# Altium footprint library CONN_TBLOCK_8P25to15P0.PcbLib: 118 footprints (part 7 of 8)
Each footprint in its own frame and in the unit in brackets; x right, y up, seen from the top. Pads: shape width x height; smd on the part's side, far side on the other; paste and mask are expansions set on the pad; w line width, h text height; cw(c..) or ccw(c..) is an arc to the next point about the centre after c.
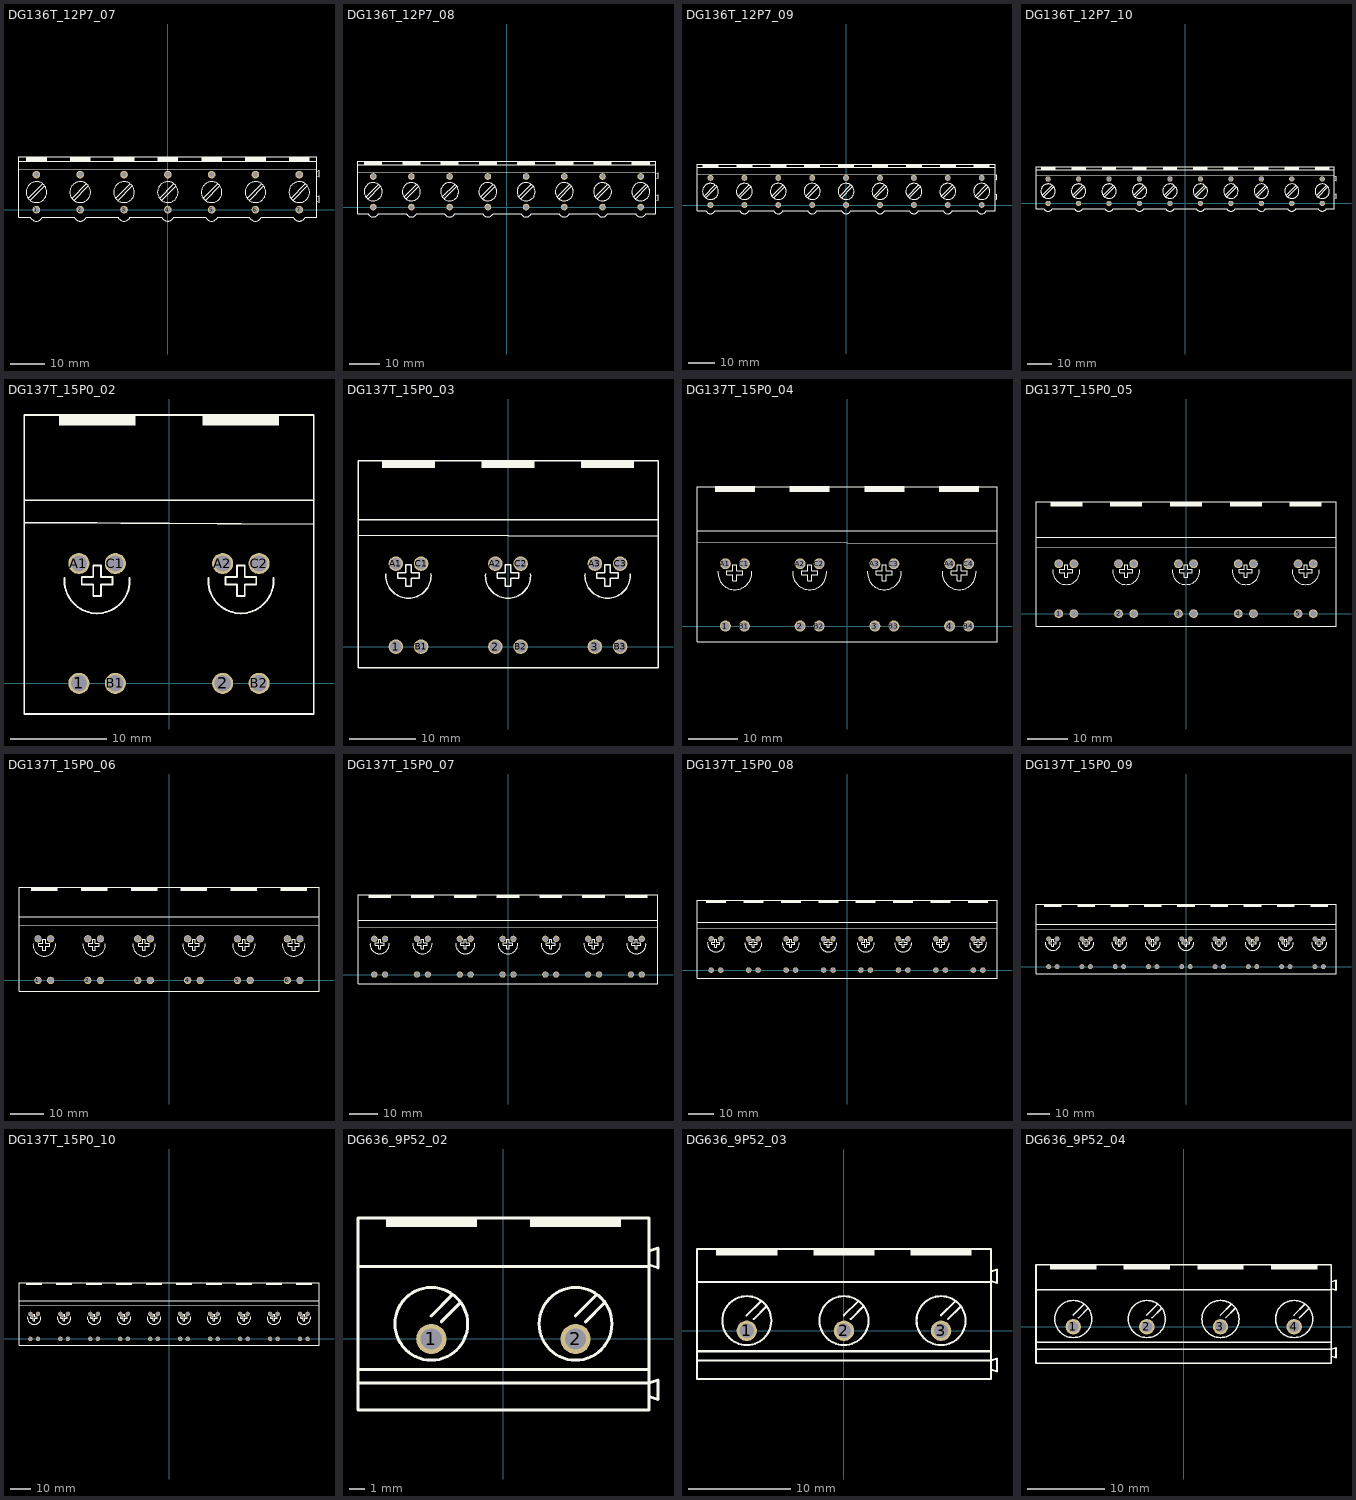
[diagram p6: the footprints below, top view; thin cyan lines are the x and y axes]

## DG136T_12P7_07 [mm] "Terminal Block Screw, Pitch 12.7mm, 60A/600v"
height 29.3
pads (14):
  round 2.2 / inner round 2.2 / far side oval 3x4 hole 1.5: 1(-38.1,0) 1'(-38.1,10.16) 2(-25.4,0) 2'(-25.4,10.16) 3(-12.7,0) 3'(-12.7,10.16) 4(0,0) 4'(0,10.16) 5(12.7,0) 5'(12.7,10.16) 6(25.4,0) 6'(25.4,10.16) 7(38.1,0) 7'(38.1,10.16)
Top Overlay:
  circle w0.2: c38.1,5.1 r3
  circle w0.2: c25.4,5.1 r3
  circle w0.2: c12.7,5.1 r3
  circle w0.2: c0,5.1 r3
  circle w0.2: c-12.7,5.1 r3
  circle w0.2: c-25.4,5.1 r3
  circle w0.2: c-38.1,5.1 r3
  rectangle: 35.1,14.1 41.1,15.3
  rectangle: 22.4,14.1 28.4,15.3
  rectangle: 9.7,14.1 15.7,15.3
  rectangle: -3,14.1 3,15.3
  rectangle: -15.7,14.1 -9.7,15.3
  rectangle: -28.4,14.1 -22.4,15.3
  rectangle: -41.1,14.1 -35.1,15.3
  lines w0.2: -43.15,11.8 43.15,11.6 ; -43.15,14.1 43.15,14.1 ; -40.475,3.355 -36.32,7.5 ; -39.817,2.697 -35.72,6.9 ; -27.775,3.355 -23.62,7.5 ; -27.117,2.697 -23.02,6.9 ; -15.075,3.355 -10.92,7.5 ; -14.417,2.697 -10.32,6.9 ; -2.375,3.355 1.78,7.5 ; -1.717,2.697 2.38,6.9 ; 10.325,3.355 14.48,7.5 ; 10.983,2.697 15.08,6.9 ; 23.025,3.355 27.18,7.5 ; 23.683,2.697 27.78,6.9 ; 35.725,3.355 39.88,7.5 ; 36.383,2.697 40.48,6.9 ; 43.158,2.424 43.83,2.2 43.83,4.1 43.158,3.876 ; 43.158,9.724 43.83,9.5 43.83,11.4 43.158,11.176 ; -43.15,-2.2 -39.822,-2.203 ccw(c-38.1,-1.4) -36.378,-2.203 -27.122,-2.203 ccw(c-25.4,-1.4) -23.678,-2.203 -14.422,-2.203 ccw(c-12.7,-1.4) -10.978,-2.203 -1.722,-2.203 ccw(c0,-1.4) 1.722,-2.203 10.978,-2.203 ccw(c12.7,-1.4) 14.422,-2.203 23.678,-2.203 ccw(c25.4,-1.4) 27.122,-2.203 36.378,-2.203 ccw(c38.1,-1.4) 39.822,-2.203 43.15,-2.2 43.15,15.3 -43.15,15.3 -43.15,-2.2
3D body "DG136T-12.7-02P.stp": height 29.29, standoff -5.01, extent 20.325,-3.2 43.935,15.2
3D body "DG136T-12.7-02P.stp": height 29.29, standoff -5.01, extent -43.175,-3.2 -19.565,15.2
3D body "DG136T-12.7-03P.stp": height 29.29, standoff -5.01, extent -17.775,-3.2 18.535,15.2

## DG136T_12P7_08 [mm] "Terminal Block Screw, Pitch 12.7mm, 60A/600v"
height 29.3
pads (16):
  round 2.2 / inner round 2.2 / far side oval 3x4 hole 1.5: 1(-44.45,0) 1'(-44.45,10.16) 2(-31.75,0) 2'(-31.75,10.16) 3(-19.05,0) 3'(-19.05,10.16) 4(-6.35,0) 4'(-6.35,10.16) 5(6.35,0) 5'(6.35,10.16) 6(19.05,0) 6'(19.05,10.16) 7(31.75,0) 7'(31.75,10.16) 8(44.45,0) 8'(44.45,10.16)
Top Overlay:
  circle w0.2: c44.45,5.1 r3
  circle w0.2: c31.75,5.1 r3
  circle w0.2: c19.05,5.1 r3
  circle w0.2: c6.35,5.1 r3
  circle w0.2: c-6.35,5.1 r3
  circle w0.2: c-19.05,5.1 r3
  circle w0.2: c-31.75,5.1 r3
  circle w0.2: c-44.45,5.1 r3
  rectangle: 41.45,14.1 47.45,15.3
  rectangle: 28.75,14.1 34.75,15.3
  rectangle: 16.05,14.1 22.05,15.3
  rectangle: 3.35,14.1 9.35,15.3
  rectangle: -9.35,14.1 -3.35,15.3
  rectangle: -22.05,14.1 -16.05,15.3
  rectangle: -34.75,14.1 -28.75,15.3
  rectangle: -47.45,14.1 -41.45,15.3
  lines w0.2: -49.5,11.8 49.5,11.6 ; -49.5,14.1 49.5,14.1 ; -46.825,3.355 -42.67,7.5 ; -46.167,2.697 -42.07,6.9 ; -34.125,3.355 -29.97,7.5 ; -33.467,2.697 -29.37,6.9 ; -21.425,3.355 -17.27,7.5 ; -20.767,2.697 -16.67,6.9 ; -8.725,3.355 -4.57,7.5 ; -8.067,2.697 -3.97,6.9 ; 3.975,3.355 8.13,7.5 ; 4.633,2.697 8.73,6.9 ; 16.675,3.355 20.83,7.5 ; 17.333,2.697 21.43,6.9 ; 29.375,3.355 33.53,7.5 ; 30.033,2.697 34.13,6.9 ; 42.075,3.355 46.23,7.5 ; 42.733,2.697 46.83,6.9 ; 49.508,2.424 50.18,2.2 50.18,4.1 49.508,3.876 ; 49.508,9.724 50.18,9.5 50.18,11.4 49.508,11.176 ; -49.5,-2.2 -46.172,-2.203 ccw(c-44.45,-1.4) -42.728,-2.203 -33.472,-2.203 ccw(c-31.75,-1.4) -30.028,-2.203 -20.772,-2.203 ccw(c-19.05,-1.4) -17.328,-2.203 -8.072,-2.203 ccw(c-6.35,-1.4) -4.628,-2.203 4.628,-2.203 ccw(c6.35,-1.4) 8.072,-2.203 17.328,-2.203 ccw(c19.05,-1.4) 20.772,-2.203 30.028,-2.203 ccw(c31.75,-1.4) 33.472,-2.203 42.728,-2.203 ccw(c44.45,-1.4) 46.172,-2.203 49.5,-2.2 49.5,15.3 -49.5,15.3 -49.5,-2.2
3D body "DG136T-12.7-02P.stp": height 29.29, standoff -5.01, extent -49.525,-3.2 -25.915,15.2
3D body "DG136T-12.7-03P.stp": height 29.29, standoff -5.01, extent -24.125,-3.2 12.185,15.2
3D body "DG136T-12.7-03P.stp": height 29.29, standoff -5.01, extent 13.975,-3.2 50.285,15.2

## DG136T_12P7_09 [mm] "Terminal Block Screw, Pitch 12.7mm, 60A/600v"
height 29.3
pads (18):
  round 2.2 / inner round 2.2 / far side oval 3x4 hole 1.5: 1(-50.8,0) 1'(-50.8,10.16) 2(-38.1,0) 2'(-38.1,10.16) 3(-25.4,0) 3'(-25.4,10.16) 4(-12.7,0) 4'(-12.7,10.16) 5(0,0) 5'(0,10.16) 6(12.7,0) 6'(12.7,10.16) 7(25.4,0) 7'(25.4,10.16) 8(38.1,0) 8'(38.1,10.16) 9(50.8,0) 9'(50.8,10.16)
Top Overlay:
  circle w0.2: c-50.8,5.1 r3
  circle w0.2: c-38.1,5.1 r3
  circle w0.2: c-25.4,5.1 r3
  circle w0.2: c-12.7,5.1 r3
  circle w0.2: c0,5.1 r3
  circle w0.2: c12.7,5.1 r3
  circle w0.2: c25.4,5.1 r3
  circle w0.2: c38.1,5.1 r3
  circle w0.2: c50.8,5.1 r3
  rectangle: -53.8,14.1 -47.8,15.3
  rectangle: -41.1,14.1 -35.1,15.3
  rectangle: -28.4,14.1 -22.4,15.3
  rectangle: -15.7,14.1 -9.7,15.3
  rectangle: -3,14.1 3,15.3
  rectangle: 9.7,14.1 15.7,15.3
  rectangle: 22.4,14.1 28.4,15.3
  rectangle: 35.1,14.1 41.1,15.3
  rectangle: 47.8,14.1 53.8,15.3
  lines w0.2: -55.85,11.8 55.85,11.6 ; -55.85,14.1 55.85,14.1 ; -53.175,3.355 -49.02,7.5 ; -52.517,2.697 -48.42,6.9 ; -40.475,3.355 -36.32,7.5 ; -39.817,2.697 -35.72,6.9 ; -27.775,3.355 -23.62,7.5 ; -27.117,2.697 -23.02,6.9 ; -15.075,3.355 -10.92,7.5 ; -14.417,2.697 -10.32,6.9 ; -2.375,3.355 1.78,7.5 ; -1.717,2.697 2.38,6.9 ; 10.325,3.355 14.48,7.5 ; 10.983,2.697 15.08,6.9 ; 23.025,3.355 27.18,7.5 ; 23.683,2.697 27.78,6.9 ; 35.725,3.355 39.88,7.5 ; 36.383,2.697 40.48,6.9 ; 48.425,3.355 52.58,7.5 ; 49.083,2.697 53.18,6.9 ; 55.858,2.424 56.53,2.2 56.53,4.1 55.858,3.876 ; 55.858,9.724 56.53,9.5 56.53,11.4 55.858,11.176 ; -55.85,-2.2 -55.85,15.3 55.85,15.3 55.85,-2.2 52.522,-2.203 cw(c50.8,-1.4) 49.078,-2.203 39.822,-2.203 cw(c38.1,-1.4) 36.378,-2.203 27.122,-2.203 cw(c25.4,-1.4) 23.678,-2.203 14.422,-2.203 cw(c12.7,-1.4) 10.978,-2.203 1.722,-2.203 cw(c0,-1.4) -1.722,-2.203 -10.978,-2.203 cw(c-12.7,-1.4) -14.422,-2.203 -23.678,-2.203 cw(c-25.4,-1.4) -27.122,-2.203 -36.378,-2.203 cw(c-38.1,-1.4) -39.822,-2.203 -49.078,-2.203 cw(c-50.8,-1.4) -52.522,-2.203 -55.85,-2.2
3D body "DG136T-12.7-03P.stp": height 29.29, standoff -5.01, extent 20.325,-3.2 56.635,15.2
3D body "DG136T-12.7-03P.stp": height 29.29, standoff -5.01, extent -17.775,-3.2 18.535,15.2
3D body "DG136T-12.7-03P.stp": height 29.29, standoff -5.01, extent -55.875,-3.2 -19.565,15.2

## DG136T_12P7_10 [mm] "Terminal Block Screw, Pitch 12.7mm, 60A/600v"
height 29.3
pads (20):
  round 2.2 / inner round 2.2 / far side oval 3x4 hole 1.5: 1(-57.15,0) 1'(-57.15,10.16) 2(-44.45,0) 2'(-44.45,10.16) 3(-31.75,0) 3'(-31.75,10.16) 4(-19.05,0) 4'(-19.05,10.16) 5(-6.35,0) 5'(-6.35,10.16) 6(6.35,0) 6'(6.35,10.16) 7(19.05,0) 7'(19.05,10.16) 8(31.75,0) 8'(31.75,10.16) 9(44.45,0) 9'(44.45,10.16) 10(57.15,0) 10'(57.15,10.16)
Top Overlay:
  circle w0.2: c57.15,5.1 r3
  circle w0.2: c44.45,5.1 r3
  circle w0.2: c31.75,5.1 r3
  circle w0.2: c19.05,5.1 r3
  circle w0.2: c6.35,5.1 r3
  circle w0.2: c-6.35,5.1 r3
  circle w0.2: c-19.05,5.1 r3
  circle w0.2: c-31.75,5.1 r3
  circle w0.2: c-44.45,5.1 r3
  circle w0.2: c-57.15,5.1 r3
  rectangle: 54.15,14.1 60.15,15.3
  rectangle: 41.45,14.1 47.45,15.3
  rectangle: 28.75,14.1 34.75,15.3
  rectangle: 16.05,14.1 22.05,15.3
  rectangle: 3.35,14.1 9.35,15.3
  rectangle: -9.35,14.1 -3.35,15.3
  rectangle: -22.05,14.1 -16.05,15.3
  rectangle: -34.75,14.1 -28.75,15.3
  rectangle: -47.45,14.1 -41.45,15.3
  rectangle: -60.15,14.1 -54.15,15.3
  lines w0.2: -62.2,11.8 62.2,11.6 ; -62.2,14.1 62.2,14.1 ; -59.525,3.355 -55.37,7.5 ; -58.867,2.697 -54.77,6.9 ; -46.825,3.355 -42.67,7.5 ; -46.167,2.697 -42.07,6.9 ; -34.125,3.355 -29.97,7.5 ; -33.467,2.697 -29.37,6.9 ; -21.425,3.355 -17.27,7.5 ; -20.767,2.697 -16.67,6.9 ; -8.725,3.355 -4.57,7.5 ; -8.067,2.697 -3.97,6.9 ; 3.975,3.355 8.13,7.5 ; 4.633,2.697 8.73,6.9 ; 16.675,3.355 20.83,7.5 ; 17.333,2.697 21.43,6.9 ; 29.375,3.355 33.53,7.5 ; 30.033,2.697 34.13,6.9 ; 42.075,3.355 46.23,7.5 ; 42.733,2.697 46.83,6.9 ; 54.775,3.355 58.93,7.5 ; 55.433,2.697 59.53,6.9 ; 62.208,2.424 62.88,2.2 62.88,4.1 62.208,3.876 ; 62.208,9.724 62.88,9.5 62.88,11.4 62.208,11.176 ; -62.2,-2.2 -58.872,-2.203 ccw(c-57.15,-1.4) -55.428,-2.203 -46.172,-2.203 ccw(c-44.45,-1.4) -42.728,-2.203 -33.472,-2.203 ccw(c-31.75,-1.4) -30.028,-2.203 -20.772,-2.203 ccw(c-19.05,-1.4) -17.328,-2.203 -8.072,-2.203 ccw(c-6.35,-1.4) -4.628,-2.203 4.628,-2.203 ccw(c6.35,-1.4) 8.072,-2.203 17.328,-2.203 ccw(c19.05,-1.4) 20.772,-2.203 30.028,-2.203 ccw(c31.75,-1.4) 33.472,-2.203 42.728,-2.203 ccw(c44.45,-1.4) 46.172,-2.203 55.428,-2.203 ccw(c57.15,-1.4) 58.872,-2.203 62.2,-2.2 62.2,15.3 -62.2,15.3 -62.2,-2.2
3D body "DG136T-12.7-02P.stp": height 29.29, standoff -5.01, extent -62.225,-3.2 -38.615,15.2
3D body "DG136T-12.7-03P.stp": height 29.29, standoff -5.01, extent -36.825,-3.2 -0.515,15.2
3D body "DG136T-12.7-02P.stp": height 29.29, standoff -5.01, extent 1.275,-3.2 24.885,15.2
3D body "DG136T-12.7-03P.stp": height 29.29, standoff -5.01, extent 26.675,-3.2 62.985,15.2

## DG137T_15P0_02 [mm] "Terminal Block Screw, Pitch 15mm, 115A/600v"
height 39
pads (8):
  round 2.2 / inner round 2.2 / far side oval 3x4 hole 1.7: 1(-9.4,0) 2(5.6,0) A1(-9.4,12.5) A2(5.6,12.5) B1(-5.6,0) B2(9.4,0) C1(-5.6,12.5) C2(9.4,12.5)
Top Overlay:
  rectangle: -11.5,26.9 -3.5,28.1
  region: 11.5,28.1 3.5,28.1 3.5,26.9 11.5,26.9
  lines w0.2: -15.1,16.8 15.1,16.6 ; -15.1,19.1 15.1,19.1 ; -10.887,10.996 ccw(c-7.5,10.7) -4.113,10.996 ; 4.113,10.996 ccw(c7.5,10.7) 10.887,10.996 ; -15.1,-3.2 -15.1,28 15.1,28 15.1,-3.2 -15.1,-3.2 ; -9.1,10.3 -7.9,10.3 -7.9,9.1 -7.1,9.1 -7.1,10.3 -5.9,10.3 -5.9,11.1 -7.1,11.1 -7.1,12.3 -7.9,12.3 -7.9,11.1 -9.1,11.1 -9.1,10.3 ; 5.9,10.3 7.1,10.3 7.1,9.1 7.9,9.1 7.9,10.3 9.1,10.3 9.1,11.1 7.9,11.1 7.9,12.3 7.1,12.3 7.1,11.1 5.9,11.1 5.9,10.3
3D body "DG137T-15.0-02P.stp": height 39.05, standoff -4.45, extent -15,-3.1 15,27.9

## DG137T_15P0_03 [mm] "Terminal Block Screw, Pitch 15mm, 115A/600v"
height 39
pads (12):
  round 2.2 / inner round 2.2 / far side oval 3x4 hole 1.7: 1(-16.9,0) 2(-1.9,0) 3(13.1,0) A1(-16.9,12.5) A2(-1.9,12.5) A3(13.1,12.5) B1(-13.1,0) B2(1.9,0) B3(16.9,0) C1(-13.1,12.5) C2(1.9,12.5) C3(16.9,12.5)
Top Overlay:
  region: 19,28.1 11,28.1 11,26.9 19,26.9
  region: 4,28.1 -4,28.1 -4,26.9 4,26.9
  rectangle: -19,26.9 -11,28.1
  lines w0.2: -22.6,16.8 22.6,16.6 ; -22.6,19.1 22.6,19.1 ; -18.387,10.996 ccw(c-15,10.7) -11.613,10.996 ; -3.387,10.996 ccw(c0,10.7) 3.387,10.996 ; 11.613,10.996 ccw(c15,10.7) 18.387,10.996 ; -22.6,-3.2 22.6,-3.2 22.6,28 -22.6,28 -22.6,-3.2 ; -16.6,10.3 -16.6,11.1 -15.4,11.1 -15.4,12.3 -14.6,12.3 -14.6,11.1 -13.4,11.1 -13.4,10.3 -14.6,10.3 -14.6,9.1 -15.4,9.1 -15.4,10.3 -16.6,10.3 ; -1.6,10.3 -1.6,11.1 -0.4,11.1 -0.4,12.3 0.4,12.3 0.4,11.1 1.6,11.1 1.6,10.3 0.4,10.3 0.4,9.1 -0.4,9.1 -0.4,10.3 -1.6,10.3 ; 13.4,10.3 13.4,11.1 14.6,11.1 14.6,12.3 15.4,12.3 15.4,11.1 16.6,11.1 16.6,10.3 15.4,10.3 15.4,9.1 14.6,9.1 14.6,10.3 13.4,10.3
3D body "DG137T-15.0-03P.stp": height 39.05, standoff -4.45, extent -22.5,-3.1 22.5,27.9

## DG137T_15P0_04 [mm] "Terminal Block Screw, Pitch 15mm, 115A/600v"
height 39
pads (16):
  round 2.2 / inner round 2.2 / far side oval 3x4 hole 1.7: 1(-24.4,0) 2(-9.4,0) 3(5.6,0) 4(20.6,0) A1(-24.4,12.5) A2(-9.4,12.5) A3(5.6,12.5) A4(20.6,12.5) B1(-20.6,0) B2(-5.6,0) B3(9.4,0) B4(24.4,0) C1(-20.6,12.5) C2(-5.6,12.5) C3(9.4,12.5) C4(24.4,12.5)
Top Overlay:
  rectangle: -26.5,26.9 -18.5,28.1
  region: -3.5,28.1 -11.5,28.1 -11.5,26.9 -3.5,26.9
  region: 11.5,28.1 3.5,28.1 3.5,26.9 11.5,26.9
  region: 26.5,28.1 18.5,28.1 18.5,26.9 26.5,26.9
  lines w0.2: -30.1,16.8 30.1,16.6 ; -30.1,19.1 30.1,19.1 ; -25.887,10.996 ccw(c-22.5,10.7) -19.113,10.996 ; -10.887,10.996 ccw(c-7.5,10.7) -4.113,10.996 ; 4.113,10.996 ccw(c7.5,10.7) 10.887,10.996 ; 19.113,10.996 ccw(c22.5,10.7) 25.887,10.996 ; -30.1,-3.2 -30.1,28 30.1,28 30.1,-3.2 -30.1,-3.2 ; -24.1,10.3 -22.9,10.3 -22.9,9.1 -22.1,9.1 -22.1,10.3 -20.9,10.3 -20.9,11.1 -22.1,11.1 -22.1,12.3 -22.9,12.3 -22.9,11.1 -24.1,11.1 -24.1,10.3 ; -9.1,10.3 -7.9,10.3 -7.9,9.1 -7.1,9.1 -7.1,10.3 -5.9,10.3 -5.9,11.1 -7.1,11.1 -7.1,12.3 -7.9,12.3 -7.9,11.1 -9.1,11.1 -9.1,10.3 ; 5.9,10.3 7.1,10.3 7.1,9.1 7.9,9.1 7.9,10.3 9.1,10.3 9.1,11.1 7.9,11.1 7.9,12.3 7.1,12.3 7.1,11.1 5.9,11.1 5.9,10.3 ; 20.9,10.3 22.1,10.3 22.1,9.1 22.9,9.1 22.9,10.3 24.1,10.3 24.1,11.1 22.9,11.1 22.9,12.3 22.1,12.3 22.1,11.1 20.9,11.1 20.9,10.3
3D body "DG137T-15.0-02P.stp": height 39.05, standoff -4.45, extent 0,-3.1 30,27.9
3D body "DG137T-15.0-02P.stp": height 39.05, standoff -4.45, extent -30,-3.1 0,27.9

## DG137T_15P0_05 [mm] "Terminal Block Screw, Pitch 15mm, 115A/600v"
height 39
pads (20):
  round 2.2 / inner round 2.2 / far side oval 3x4 hole 1.7: 1(-31.9,0) 2(-16.9,0) 3(-1.9,0) 4(13.1,0) 5(28.1,0) A1(-31.9,12.5) A2(-16.9,12.5) A3(-1.9,12.5) A4(13.1,12.5) A5(28.1,12.5) B1(-28.1,0) B2(-13.1,0) B3(1.9,0) B4(16.9,0) B5(31.9,0) C1(-28.1,12.5) C2(-13.1,12.5) C3(1.9,12.5) C4(16.9,12.5) C5(31.9,12.5)
Top Overlay:
  rectangle: -34,26.9 -26,28.1
  region: -11,28.1 -19,28.1 -19,26.9 -11,26.9
  region: 4,28.1 -4,28.1 -4,26.9 4,26.9
  region: 19,28.1 11,28.1 11,26.9 19,26.9
  region: 34,28.1 26,28.1 26,26.9 34,26.9
  lines w0.2: -37.6,16.8 37.6,16.6 ; -37.6,19.1 37.6,19.1 ; -33.387,10.996 ccw(c-30,10.7) -26.613,10.996 ; -18.387,10.996 ccw(c-15,10.7) -11.613,10.996 ; -3.387,10.996 ccw(c0,10.7) 3.387,10.996 ; 11.613,10.996 ccw(c15,10.7) 18.387,10.996 ; 26.613,10.996 ccw(c30,10.7) 33.387,10.996 ; -37.6,-3.2 -37.6,28 37.6,28 37.6,-3.2 -37.6,-3.2 ; -31.6,10.3 -30.4,10.3 -30.4,9.1 -29.6,9.1 -29.6,10.3 -28.4,10.3 -28.4,11.1 -29.6,11.1 -29.6,12.3 -30.4,12.3 -30.4,11.1 -31.6,11.1 -31.6,10.3 ; -16.6,10.3 -15.4,10.3 -15.4,9.1 -14.6,9.1 -14.6,10.3 -13.4,10.3 -13.4,11.1 -14.6,11.1 -14.6,12.3 -15.4,12.3 -15.4,11.1 -16.6,11.1 -16.6,10.3 ; -1.6,10.3 -0.4,10.3 -0.4,9.1 0.4,9.1 0.4,10.3 1.6,10.3 1.6,11.1 0.4,11.1 0.4,12.3 -0.4,12.3 -0.4,11.1 -1.6,11.1 -1.6,10.3 ; 13.4,10.3 14.6,10.3 14.6,9.1 15.4,9.1 15.4,10.3 16.6,10.3 16.6,11.1 15.4,11.1 15.4,12.3 14.6,12.3 14.6,11.1 13.4,11.1 13.4,10.3 ; 28.4,10.3 29.6,10.3 29.6,9.1 30.4,9.1 30.4,10.3 31.6,10.3 31.6,11.1 30.4,11.1 30.4,12.3 29.6,12.3 29.6,11.1 28.4,11.1 28.4,10.3
3D body "DG137T-15.0-02P.stp": height 39.05, standoff -4.45, extent -37.5,-3.1 -7.5,27.9
3D body "DG137T-15.0-03P.stp": height 39.05, standoff -4.45, extent -7.5,-3.1 37.5,27.9

## DG137T_15P0_06 [mm] "Terminal Block Screw, Pitch 15mm, 115A/600v"
height 39
pads (24):
  round 2.2 / inner round 2.2 / far side oval 3x4 hole 1.7: 1(-39.4,0) 2(-24.4,0) 3(-9.4,0) 4(5.6,0) 5(20.6,0) 6(35.6,0) A1(-39.4,12.5) A2(-24.4,12.5) A3(-9.4,12.5) A4(5.6,12.5) A5(20.6,12.5) A6(35.6,12.5) B1(-35.6,0) B2(-20.6,0) B3(-5.6,0) B4(9.4,0) B5(24.4,0) B6(39.4,0) C1(-35.6,12.5) C2(-20.6,12.5) C3(-5.6,12.5) C4(9.4,12.5) C5(24.4,12.5) C6(39.4,12.5)
Top Overlay:
  rectangle: -41.5,26.9 -33.5,28.1
  region: -18.5,28.1 -26.5,28.1 -26.5,26.9 -18.5,26.9
  region: -3.5,28.1 -11.5,28.1 -11.5,26.9 -3.5,26.9
  region: 11.5,28.1 3.5,28.1 3.5,26.9 11.5,26.9
  region: 26.5,28.1 18.5,28.1 18.5,26.9 26.5,26.9
  region: 41.5,28.1 33.5,28.1 33.5,26.9 41.5,26.9
  lines w0.2: -45.1,16.8 45.1,16.6 ; -45.1,19.1 45.1,19.1 ; -40.887,10.996 ccw(c-37.5,10.7) -34.113,10.996 ; -25.887,10.996 ccw(c-22.5,10.7) -19.113,10.996 ; -10.887,10.996 ccw(c-7.5,10.7) -4.113,10.996 ; 4.113,10.996 ccw(c7.5,10.7) 10.887,10.996 ; 19.113,10.996 ccw(c22.5,10.7) 25.887,10.996 ; 34.113,10.996 ccw(c37.5,10.7) 40.887,10.996 ; -45.1,-3.2 -45.1,28 45.1,28 45.1,-3.2 -45.1,-3.2 ; -39.1,10.3 -37.9,10.3 -37.9,9.1 -37.1,9.1 -37.1,10.3 -35.9,10.3 -35.9,11.1 -37.1,11.1 -37.1,12.3 -37.9,12.3 -37.9,11.1 -39.1,11.1 -39.1,10.3 ; -24.1,10.3 -22.9,10.3 -22.9,9.1 -22.1,9.1 -22.1,10.3 -20.9,10.3 -20.9,11.1 -22.1,11.1 -22.1,12.3 -22.9,12.3 -22.9,11.1 -24.1,11.1 -24.1,10.3 ; -9.1,10.3 -7.9,10.3 -7.9,9.1 -7.1,9.1 -7.1,10.3 -5.9,10.3 -5.9,11.1 -7.1,11.1 -7.1,12.3 -7.9,12.3 -7.9,11.1 -9.1,11.1 -9.1,10.3 ; 5.9,10.3 7.1,10.3 7.1,9.1 7.9,9.1 7.9,10.3 9.1,10.3 9.1,11.1 7.9,11.1 7.9,12.3 7.1,12.3 7.1,11.1 5.9,11.1 5.9,10.3 ; 20.9,10.3 22.1,10.3 22.1,9.1 22.9,9.1 22.9,10.3 24.1,10.3 24.1,11.1 22.9,11.1 22.9,12.3 22.1,12.3 22.1,11.1 20.9,11.1 20.9,10.3 ; 35.9,10.3 37.1,10.3 37.1,9.1 37.9,9.1 37.9,10.3 39.1,10.3 39.1,11.1 37.9,11.1 37.9,12.3 37.1,12.3 37.1,11.1 35.9,11.1 35.9,10.3
3D body "DG137T-15.0-03P.stp": height 39.05, standoff -4.45, extent 0,-3.1 45,27.9
3D body "DG137T-15.0-03P.stp": height 39.05, standoff -4.45, extent -45,-3.1 0,27.9

## DG137T_15P0_07 [mm] "Terminal Block Screw, Pitch 15mm, 115A/600v"
height 39
pads (28):
  round 2.2 / inner round 2.2 / far side oval 3x4 hole 1.7: 1(-46.9,0) 2(-31.9,0) 3(-16.9,0) 4(-1.9,0) 5(13.1,0) 6(28.1,0) 7(43.1,0) A1(-46.9,12.5) A2(-31.9,12.5) A3(-16.9,12.5) A4(-1.9,12.5) A5(13.1,12.5) A6(28.1,12.5) A7(43.1,12.5) B1(-43.1,0) B2(-28.1,0) B3(-13.1,0) B4(1.9,0) B5(16.9,0) B6(31.9,0) B7(46.9,0) C1(-43.1,12.5) C2(-28.1,12.5) C3(-13.1,12.5) C4(1.9,12.5) C5(16.9,12.5) C6(31.9,12.5) C7(46.9,12.5)
Top Overlay:
  region: 49,28.1 41,28.1 41,26.9 49,26.9
  region: 34,28.1 26,28.1 26,26.9 34,26.9
  region: 19,28.1 11,28.1 11,26.9 19,26.9
  region: 4,28.1 -4,28.1 -4,26.9 4,26.9
  region: -11,28.1 -19,28.1 -19,26.9 -11,26.9
  region: -26,28.1 -34,28.1 -34,26.9 -26,26.9
  rectangle: -49,26.9 -41,28.1
  lines w0.2: -52.6,16.8 52.6,16.6 ; -52.6,19.1 52.6,19.1 ; -48.387,10.996 ccw(c-45,10.7) -41.613,10.996 ; -33.387,10.996 ccw(c-30,10.7) -26.613,10.996 ; -18.387,10.996 ccw(c-15,10.7) -11.613,10.996 ; -3.387,10.996 ccw(c0,10.7) 3.387,10.996 ; 11.613,10.996 ccw(c15,10.7) 18.387,10.996 ; 26.613,10.996 ccw(c30,10.7) 33.387,10.996 ; 41.613,10.996 ccw(c45,10.7) 48.387,10.996 ; -52.6,-3.2 52.6,-3.2 52.6,28 -52.6,28 -52.6,-3.2 ; -46.6,10.3 -46.6,11.1 -45.4,11.1 -45.4,12.3 -44.6,12.3 -44.6,11.1 -43.4,11.1 -43.4,10.3 -44.6,10.3 -44.6,9.1 -45.4,9.1 -45.4,10.3 -46.6,10.3 ; -31.6,10.3 -31.6,11.1 -30.4,11.1 -30.4,12.3 -29.6,12.3 -29.6,11.1 -28.4,11.1 -28.4,10.3 -29.6,10.3 -29.6,9.1 -30.4,9.1 -30.4,10.3 -31.6,10.3 ; -16.6,10.3 -16.6,11.1 -15.4,11.1 -15.4,12.3 -14.6,12.3 -14.6,11.1 -13.4,11.1 -13.4,10.3 -14.6,10.3 -14.6,9.1 -15.4,9.1 -15.4,10.3 -16.6,10.3 ; -1.6,10.3 -1.6,11.1 -0.4,11.1 -0.4,12.3 0.4,12.3 0.4,11.1 1.6,11.1 1.6,10.3 0.4,10.3 0.4,9.1 -0.4,9.1 -0.4,10.3 -1.6,10.3 ; 13.4,10.3 13.4,11.1 14.6,11.1 14.6,12.3 15.4,12.3 15.4,11.1 16.6,11.1 16.6,10.3 15.4,10.3 15.4,9.1 14.6,9.1 14.6,10.3 13.4,10.3 ; 28.4,10.3 28.4,11.1 29.6,11.1 29.6,12.3 30.4,12.3 30.4,11.1 31.6,11.1 31.6,10.3 30.4,10.3 30.4,9.1 29.6,9.1 29.6,10.3 28.4,10.3 ; 43.4,10.3 43.4,11.1 44.6,11.1 44.6,12.3 45.4,12.3 45.4,11.1 46.6,11.1 46.6,10.3 45.4,10.3 45.4,9.1 44.6,9.1 44.6,10.3 43.4,10.3
3D body "DG137T-15.0-02P.stp": height 39.05, standoff -4.45, extent 22.5,-3.1 52.5,27.9
3D body "DG137T-15.0-03P.stp": height 39.05, standoff -4.45, extent -22.5,-3.1 22.5,27.9
3D body "DG137T-15.0-02P.stp": height 39.05, standoff -4.45, extent -52.5,-3.1 -22.5,27.9

## DG137T_15P0_08 [mm] "Terminal Block Screw, Pitch 15mm, 115A/600v"
height 39
pads (32):
  round 2.2 / inner round 2.2 / far side oval 3x4 hole 1.7: 1(-54.4,0) 2(-39.4,0) 3(-24.4,0) 4(-9.4,0) 5(5.6,0) 6(20.6,0) 7(35.6,0) 8(50.6,0) A1(-54.4,12.5) A2(-39.4,12.5) A3(-24.4,12.5) A4(-9.4,12.5) A5(5.6,12.5) A6(20.6,12.5) A7(35.6,12.5) A8(50.6,12.5) B1(-50.6,0) B2(-35.6,0) B3(-20.6,0) B4(-5.6,0) B5(9.4,0) B6(24.4,0) B7(39.4,0) B8(54.4,0) C1(-50.6,12.5) C2(-35.6,12.5) C3(-20.6,12.5) C4(-5.6,12.5) C5(9.4,12.5) C6(24.4,12.5) C7(39.4,12.5) C8(54.4,12.5)
Top Overlay:
  region: 56.5,28.1 48.5,28.1 48.5,26.9 56.5,26.9
  region: 41.5,28.1 33.5,28.1 33.5,26.9 41.5,26.9
  region: 26.5,28.1 18.5,28.1 18.5,26.9 26.5,26.9
  region: 11.5,28.1 3.5,28.1 3.5,26.9 11.5,26.9
  region: -3.5,28.1 -11.5,28.1 -11.5,26.9 -3.5,26.9
  region: -18.5,28.1 -26.5,28.1 -26.5,26.9 -18.5,26.9
  region: -33.5,28.1 -41.5,28.1 -41.5,26.9 -33.5,26.9
  rectangle: -56.5,26.9 -48.5,28.1
  lines w0.2: -60.1,16.8 60.1,16.6 ; -60.1,19.1 60.1,19.1 ; -55.887,10.996 ccw(c-52.5,10.7) -49.113,10.996 ; -40.887,10.996 ccw(c-37.5,10.7) -34.113,10.996 ; -25.887,10.996 ccw(c-22.5,10.7) -19.113,10.996 ; -10.887,10.996 ccw(c-7.5,10.7) -4.113,10.996 ; 4.113,10.996 ccw(c7.5,10.7) 10.887,10.996 ; 19.113,10.996 ccw(c22.5,10.7) 25.887,10.996 ; 34.113,10.996 ccw(c37.5,10.7) 40.887,10.996 ; 49.113,10.996 ccw(c52.5,10.7) 55.887,10.996 ; -60.1,-3.2 60.1,-3.2 60.1,28 -60.1,28 -60.1,-3.2 ; -54.1,10.3 -54.1,11.1 -52.9,11.1 -52.9,12.3 -52.1,12.3 -52.1,11.1 -50.9,11.1 -50.9,10.3 -52.1,10.3 -52.1,9.1 -52.9,9.1 -52.9,10.3 -54.1,10.3 ; -39.1,10.3 -39.1,11.1 -37.9,11.1 -37.9,12.3 -37.1,12.3 -37.1,11.1 -35.9,11.1 -35.9,10.3 -37.1,10.3 -37.1,9.1 -37.9,9.1 -37.9,10.3 -39.1,10.3 ; -24.1,10.3 -24.1,11.1 -22.9,11.1 -22.9,12.3 -22.1,12.3 -22.1,11.1 -20.9,11.1 -20.9,10.3 -22.1,10.3 -22.1,9.1 -22.9,9.1 -22.9,10.3 -24.1,10.3 ; -9.1,10.3 -9.1,11.1 -7.9,11.1 -7.9,12.3 -7.1,12.3 -7.1,11.1 -5.9,11.1 -5.9,10.3 -7.1,10.3 -7.1,9.1 -7.9,9.1 -7.9,10.3 -9.1,10.3 ; 5.9,10.3 5.9,11.1 7.1,11.1 7.1,12.3 7.9,12.3 7.9,11.1 9.1,11.1 9.1,10.3 7.9,10.3 7.9,9.1 7.1,9.1 7.1,10.3 5.9,10.3 ; 20.9,10.3 20.9,11.1 22.1,11.1 22.1,12.3 22.9,12.3 22.9,11.1 24.1,11.1 24.1,10.3 22.9,10.3 22.9,9.1 22.1,9.1 22.1,10.3 20.9,10.3 ; 35.9,10.3 35.9,11.1 37.1,11.1 37.1,12.3 37.9,12.3 37.9,11.1 39.1,11.1 39.1,10.3 37.9,10.3 37.9,9.1 37.1,9.1 37.1,10.3 35.9,10.3 ; 50.9,10.3 50.9,11.1 52.1,11.1 52.1,12.3 52.9,12.3 52.9,11.1 54.1,11.1 54.1,10.3 52.9,10.3 52.9,9.1 52.1,9.1 52.1,10.3 50.9,10.3
3D body "DG137T-15.0-03P.stp": height 39.05, standoff -4.45, extent 15,-3.1 60,27.9
3D body "DG137T-15.0-03P.stp": height 39.05, standoff -4.45, extent -30,-3.1 15,27.9
3D body "DG137T-15.0-02P.stp": height 39.05, standoff -4.45, extent -60,-3.1 -30,27.9

## DG137T_15P0_09 [mm] "Terminal Block Screw, Pitch 15mm, 115A/600v"
height 39
pads (36):
  round 2.2 / inner round 2.2 / far side oval 3x4 hole 1.7: 1(-61.9,0) 2(-46.9,0) 3(-31.9,0) 4(-16.9,0) 5(-1.9,0) 6(13.1,0) 7(28.1,0) 8(43.1,0) 9(58.1,0) A1(-61.9,12.5) A2(-46.9,12.5) A3(-31.9,12.5) A4(-16.9,12.5) A5(-1.9,12.5) A6(13.1,12.5) A7(28.1,12.5) A8(43.1,12.5) A9(58.1,12.5) B1(-58.1,0) B2(-43.1,0) B3(-28.1,0) B4(-13.1,0) B5(1.9,0) B6(16.9,0) B7(31.9,0) B8(46.9,0) B9(61.9,0) C1(-58.1,12.5) C2(-43.1,12.5) C3(-28.1,12.5) C4(-13.1,12.5) C5(1.9,12.5) C6(16.9,12.5) C7(31.9,12.5) C8(46.9,12.5) C9(61.9,12.5)
Top Overlay:
  region: 64,28.1 56,28.1 56,26.9 64,26.9
  region: 49,28.1 41,28.1 41,26.9 49,26.9
  region: 34,28.1 26,28.1 26,26.9 34,26.9
  region: 19,28.1 11,28.1 11,26.9 19,26.9
  region: 4,28.1 -4,28.1 -4,26.9 4,26.9
  region: -11,28.1 -19,28.1 -19,26.9 -11,26.9
  region: -26,28.1 -34,28.1 -34,26.9 -26,26.9
  region: -41,28.1 -49,28.1 -49,26.9 -41,26.9
  rectangle: -64,26.9 -56,28.1
  lines w0.2: -67.6,16.8 67.6,16.6 ; -67.6,19.1 67.6,19.1 ; -63.387,10.996 ccw(c-60,10.7) -56.613,10.996 ; -48.387,10.996 ccw(c-45,10.7) -41.613,10.996 ; -33.387,10.996 ccw(c-30,10.7) -26.613,10.996 ; -18.387,10.996 ccw(c-15,10.7) -11.613,10.996 ; -3.387,10.996 ccw(c0,10.7) 3.387,10.996 ; 11.613,10.996 ccw(c15,10.7) 18.387,10.996 ; 26.613,10.996 ccw(c30,10.7) 33.387,10.996 ; 41.613,10.996 ccw(c45,10.7) 48.387,10.996 ; 56.613,10.996 ccw(c60,10.7) 63.387,10.996 ; -67.6,-3.2 67.6,-3.2 67.6,28 -67.6,28 -67.6,-3.2 ; -61.6,10.3 -61.6,11.1 -60.4,11.1 -60.4,12.3 -59.6,12.3 -59.6,11.1 -58.4,11.1 -58.4,10.3 -59.6,10.3 -59.6,9.1 -60.4,9.1 -60.4,10.3 -61.6,10.3 ; -46.6,10.3 -46.6,11.1 -45.4,11.1 -45.4,12.3 -44.6,12.3 -44.6,11.1 -43.4,11.1 -43.4,10.3 -44.6,10.3 -44.6,9.1 -45.4,9.1 -45.4,10.3 -46.6,10.3 ; -31.6,10.3 -31.6,11.1 -30.4,11.1 -30.4,12.3 -29.6,12.3 -29.6,11.1 -28.4,11.1 -28.4,10.3 -29.6,10.3 -29.6,9.1 -30.4,9.1 -30.4,10.3 -31.6,10.3 ; -16.6,10.3 -16.6,11.1 -15.4,11.1 -15.4,12.3 -14.6,12.3 -14.6,11.1 -13.4,11.1 -13.4,10.3 -14.6,10.3 -14.6,9.1 -15.4,9.1 -15.4,10.3 -16.6,10.3 ; -1.6,10.3 -1.6,11.1 -0.4,11.1 -0.4,12.3 0.4,12.3 0.4,11.1 1.6,11.1 1.6,10.3 0.4,10.3 0.4,9.1 -0.4,9.1 -0.4,10.3 -1.6,10.3 ; 13.4,10.3 13.4,11.1 14.6,11.1 14.6,12.3 15.4,12.3 15.4,11.1 16.6,11.1 16.6,10.3 15.4,10.3 15.4,9.1 14.6,9.1 14.6,10.3 13.4,10.3 ; 28.4,10.3 28.4,11.1 29.6,11.1 29.6,12.3 30.4,12.3 30.4,11.1 31.6,11.1 31.6,10.3 30.4,10.3 30.4,9.1 29.6,9.1 29.6,10.3 28.4,10.3 ; 43.4,10.3 43.4,11.1 44.6,11.1 44.6,12.3 45.4,12.3 45.4,11.1 46.6,11.1 46.6,10.3 45.4,10.3 45.4,9.1 44.6,9.1 44.6,10.3 43.4,10.3 ; 58.4,10.3 58.4,11.1 59.6,11.1 59.6,12.3 60.4,12.3 60.4,11.1 61.6,11.1 61.6,10.3 60.4,10.3 60.4,9.1 59.6,9.1 59.6,10.3 58.4,10.3
3D body "DG137T-15.0-03P.stp": height 39.05, standoff -4.45, extent -22.5,-3.1 22.5,27.9
3D body "DG137T-15.0-03P.stp": height 39.05, standoff -4.45, extent -67.5,-3.1 -22.5,27.9
3D body "DG137T-15.0-03P.stp": height 39.05, standoff -4.45, extent 22.5,-3.1 67.5,27.9

## DG137T_15P0_10 [mm] "Terminal Block Screw, Pitch 15mm, 115A/600v"
height 39
pads (40):
  round 2.2 / inner round 2.2 / far side oval 3x4 hole 1.7: 1(-69.4,0) 2(-54.4,0) 3(-39.4,0) 4(-24.4,0) 5(-9.4,0) 6(5.6,0) 7(20.6,0) 8(35.6,0) 9(50.6,0) 10(65.6,0) A1(-69.4,12.5) A2(-54.4,12.5) A3(-39.4,12.5) A4(-24.4,12.5) A5(-9.4,12.5) A6(5.6,12.5) A7(20.6,12.5) A8(35.6,12.5) A9(50.6,12.5) A10(65.6,12.5) B1(-65.6,0) B2(-50.6,0) B3(-35.6,0) B4(-20.6,0) B5(-5.6,0) B6(9.4,0) B7(24.4,0) B8(39.4,0) B9(54.4,0) B10(69.4,0) C1(-65.6,12.5) C2(-50.6,12.5) C3(-35.6,12.5) C4(-20.6,12.5) C5(-5.6,12.5) C6(9.4,12.5) C7(24.4,12.5) C8(39.4,12.5) C9(54.4,12.5) C10(69.4,12.5)
Top Overlay:
  rectangle: -71.5,26.9 -63.5,28.1
  region: -48.5,28.1 -56.5,28.1 -56.5,26.9 -48.5,26.9
  region: -33.5,28.1 -41.5,28.1 -41.5,26.9 -33.5,26.9
  region: -18.5,28.1 -26.5,28.1 -26.5,26.9 -18.5,26.9
  region: -3.5,28.1 -11.5,28.1 -11.5,26.9 -3.5,26.9
  region: 11.5,28.1 3.5,28.1 3.5,26.9 11.5,26.9
  region: 26.5,28.1 18.5,28.1 18.5,26.9 26.5,26.9
  region: 41.5,28.1 33.5,28.1 33.5,26.9 41.5,26.9
  region: 56.5,28.1 48.5,28.1 48.5,26.9 56.5,26.9
  region: 71.5,28.1 63.5,28.1 63.5,26.9 71.5,26.9
  lines w0.2: -75.1,16.8 75.1,16.6 ; -75.1,19.1 75.1,19.1 ; -70.887,10.996 ccw(c-67.5,10.7) -64.113,10.996 ; -55.887,10.996 ccw(c-52.5,10.7) -49.113,10.996 ; -40.887,10.996 ccw(c-37.5,10.7) -34.113,10.996 ; -25.887,10.996 ccw(c-22.5,10.7) -19.113,10.996 ; -10.887,10.996 ccw(c-7.5,10.7) -4.113,10.996 ; 4.113,10.996 ccw(c7.5,10.7) 10.887,10.996 ; 19.113,10.996 ccw(c22.5,10.7) 25.887,10.996 ; 34.113,10.996 ccw(c37.5,10.7) 40.887,10.996 ; 49.113,10.996 ccw(c52.5,10.7) 55.887,10.996 ; 64.113,10.996 ccw(c67.5,10.7) 70.887,10.996 ; -75.1,-3.2 -75.1,28 75.1,28 75.1,-3.2 -75.1,-3.2 ; -69.1,10.3 -67.9,10.3 -67.9,9.1 -67.1,9.1 -67.1,10.3 -65.9,10.3 -65.9,11.1 -67.1,11.1 -67.1,12.3 -67.9,12.3 -67.9,11.1 -69.1,11.1 -69.1,10.3 ; -54.1,10.3 -52.9,10.3 -52.9,9.1 -52.1,9.1 -52.1,10.3 -50.9,10.3 -50.9,11.1 -52.1,11.1 -52.1,12.3 -52.9,12.3 -52.9,11.1 -54.1,11.1 -54.1,10.3 ; -39.1,10.3 -37.9,10.3 -37.9,9.1 -37.1,9.1 -37.1,10.3 -35.9,10.3 -35.9,11.1 -37.1,11.1 -37.1,12.3 -37.9,12.3 -37.9,11.1 -39.1,11.1 -39.1,10.3 ; -24.1,10.3 -22.9,10.3 -22.9,9.1 -22.1,9.1 -22.1,10.3 -20.9,10.3 -20.9,11.1 -22.1,11.1 -22.1,12.3 -22.9,12.3 -22.9,11.1 -24.1,11.1 -24.1,10.3 ; -9.1,10.3 -7.9,10.3 -7.9,9.1 -7.1,9.1 -7.1,10.3 -5.9,10.3 -5.9,11.1 -7.1,11.1 -7.1,12.3 -7.9,12.3 -7.9,11.1 -9.1,11.1 -9.1,10.3 ; 5.9,10.3 7.1,10.3 7.1,9.1 7.9,9.1 7.9,10.3 9.1,10.3 9.1,11.1 7.9,11.1 7.9,12.3 7.1,12.3 7.1,11.1 5.9,11.1 5.9,10.3 ; 20.9,10.3 22.1,10.3 22.1,9.1 22.9,9.1 22.9,10.3 24.1,10.3 24.1,11.1 22.9,11.1 22.9,12.3 22.1,12.3 22.1,11.1 20.9,11.1 20.9,10.3 ; 35.9,10.3 37.1,10.3 37.1,9.1 37.9,9.1 37.9,10.3 39.1,10.3 39.1,11.1 37.9,11.1 37.9,12.3 37.1,12.3 37.1,11.1 35.9,11.1 35.9,10.3 ; 50.9,10.3 52.1,10.3 52.1,9.1 52.9,9.1 52.9,10.3 54.1,10.3 54.1,11.1 52.9,11.1 52.9,12.3 52.1,12.3 52.1,11.1 50.9,11.1 50.9,10.3 ; 65.9,10.3 67.1,10.3 67.1,9.1 67.9,9.1 67.9,10.3 69.1,10.3 69.1,11.1 67.9,11.1 67.9,12.3 67.1,12.3 67.1,11.1 65.9,11.1 65.9,10.3
3D body "DG137T-15.0-02P.stp": height 39.05, standoff -4.45, extent -75,-3.1 -45,27.9
3D body "DG137T-15.0-03P.stp": height 39.05, standoff -4.45, extent -45,-3.1 0,27.9
3D body "DG137T-15.0-02P.stp": height 39.05, standoff -4.45, extent 0,-3.1 30,27.9
3D body "DG137T-15.0-03P.stp": height 39.05, standoff -4.45, extent 30,-3.1 75,27.9

## DG636_9P52_02 [mm] "Terminal Block Screw, Pitch 9.52mm, 30A/300v"
height 21.5
pads (2):
  round 2 / inner round 2 / far side oval 2.8x4 hole 1.4: 1(-4.76,0) 2(4.76,0)
Top Overlay:
  circle w0.2: c4.76,1 r2.4
  circle w0.2: c-4.76,1 r2.4
  rectangle: -7.76,7.4 -1.76,8
  rectangle: 1.76,7.4 7.76,8
  lines w0.2: -9.6,-2.9 9.6,-2.9 10.2,-2.7 10.2,-4 9.6,-3.8 ; -9.6,-2 9.6,-2 ; -9.6,4.8 9.6,4.8 ; -4.772,1.512 -3.372,2.912 ; -4.098,1.138 -2.848,2.388 ; 4.748,1.512 6.148,2.912 ; 5.422,1.138 6.672,2.388 ; 9.6,4.9 10.2,4.7 10.2,6 9.6,5.8 ; -9.6,-4.7 -9.6,8 9.6,8 9.6,-4.7 -9.6,-4.7
3D body "DG636-9.52-02P.stp": height 21.56, standoff -4.94, extent -9.555,-4.6 10.035,7.9

## DG636_9P52_03 [mm] "Terminal Block Screw, Pitch 9.52mm, 30A/300v"
height 21.5
pads (3):
  round 2 / inner round 2 / far side oval 2.8x4 hole 1.4: 1(-9.52,0) 2(0,0) 3(9.52,0)
Top Overlay:
  circle w0.2: c-9.52,1 r2.4
  circle w0.2: c0,1 r2.4
  circle w0.2: c9.52,1 r2.4
  rectangle: -12.52,7.4 -6.52,8
  rectangle: -3,7.4 3,8
  rectangle: 6.52,7.4 12.52,8
  lines w0.2: -14.4,-2.9 14.4,-2.9 15,-2.7 15,-4 14.4,-3.8 ; -14.4,-2 14.4,-2 ; -14.4,4.8 14.4,4.8 ; -9.532,1.512 -8.132,2.912 ; -8.858,1.138 -7.608,2.388 ; -0.012,1.512 1.388,2.912 ; 0.662,1.138 1.912,2.388 ; 9.508,1.512 10.908,2.912 ; 10.182,1.138 11.432,2.388 ; 14.4,4.9 15,4.7 15,6 14.4,5.8 ; -14.4,-4.7 14.4,-4.7 14.4,8 -14.4,8 -14.4,-4.7
3D body "DG636-9.52-03P.stp": height 21.56, standoff -4.94, extent -14.315,-4.6 14.795,7.9

## DG636_9P52_04 [mm] "Terminal Block Screw, Pitch 9.52mm, 30A/300v"
height 21.5
pads (4):
  round 2 / inner round 2 / far side oval 2.8x4 hole 1.4: 1(-14.28,0) 2(-4.76,0) 3(4.76,0) 4(14.28,0)
Top Overlay:
  circle w0.2: c-14.28,1 r2.4
  circle w0.2: c-4.76,1 r2.4
  circle w0.2: c4.76,1 r2.4
  circle w0.2: c14.28,1 r2.4
  rectangle: -17.28,7.4 -11.28,8
  rectangle: -7.76,7.4 -1.76,8
  rectangle: 1.76,7.4 7.76,8
  rectangle: 11.28,7.4 17.28,8
  lines w0.2: -19.1,-2.9 19.1,-2.9 19.7,-2.7 19.7,-4 19.1,-3.8 ; -19.1,-2 19.1,-2 ; -19.1,4.8 19.1,4.8 ; -14.292,1.512 -12.892,2.912 ; -13.618,1.138 -12.368,2.388 ; -4.772,1.512 -3.372,2.912 ; -4.098,1.138 -2.848,2.388 ; 4.748,1.512 6.148,2.912 ; 5.422,1.138 6.672,2.388 ; 14.268,1.512 15.668,2.912 ; 14.942,1.138 16.192,2.388 ; 19.1,4.9 19.7,4.7 19.7,6 19.1,5.8 ; -19.1,-4.7 19.1,-4.7 19.1,8 -19.1,8 -19.1,-4.7
3D body "DG636-9.52-02P.stp": height 21.56, standoff -4.94, extent -19.075,-4.6 0.515,7.9
3D body "DG636-9.52-02P.stp": height 21.56, standoff -4.94, extent -0.035,-4.6 19.555,7.9